# Altium schematic symbol library CAPACITOR 47UF 25V.SchLib: 1 symbol
Pins are listed as number, name and electrical type; pins without a type are passive.

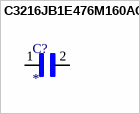
[diagram p0: symbol C3216JB1E476M160AC]

## C3216JB1E476M160AC
designator C?
Cap Ceramic 47uF 25V JB 20% SMD 1206 85C T/R; MP: C3216JB1E476M160AC; Package: None; Price: None; Value: *; Availability: Unavailable
footprint CAPC3216X180N
pins: 1, 2